# Altium schematic symbol library Skayboard.SchLib: 3 symbols
Pins are listed as number, name and electrical type; pins without a type are passive.

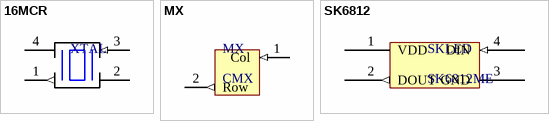
[diagram p0: symbols 16MCR to SK6812]

## 16MCR
designator XTAL  (value not drawn)
16Mhz crystal resonator, JLCPCB #C13738
footprint XTAL16M (A 16Mhz crystal resonator footprint, JLCPCB #C13738)
pins: 1 (out), 2 (power), 3 (in), 4 (power)

## MX
designator MX, comment CMX
Cherry MX Footprint
footprint MX (Cherry MX Footprint)
pins: 1 Col (in) "Column", 2 Row (out)

## SK6812
designator SKLED, comment SK6812ME
Individually Adressable SK6812 Mini-E 3528 LED
footprint SK6812ME (SK6812 Mini-E footprint)
pins: 1 VDD (power), 2 DOUT (out), 3 GND (power), 4 DIN (in)